# Altium footprint library footprints.PcbLib: 13 footprints
Each footprint in its own frame and in the unit in brackets; x right, y up, seen from the top. Pads: shape width x height; smd on the part's side, far side on the other; paste and mask are expansions set on the pad; w line width, h text height; cw(c..) or ccw(c..) is an arc to the next point about the centre after c.
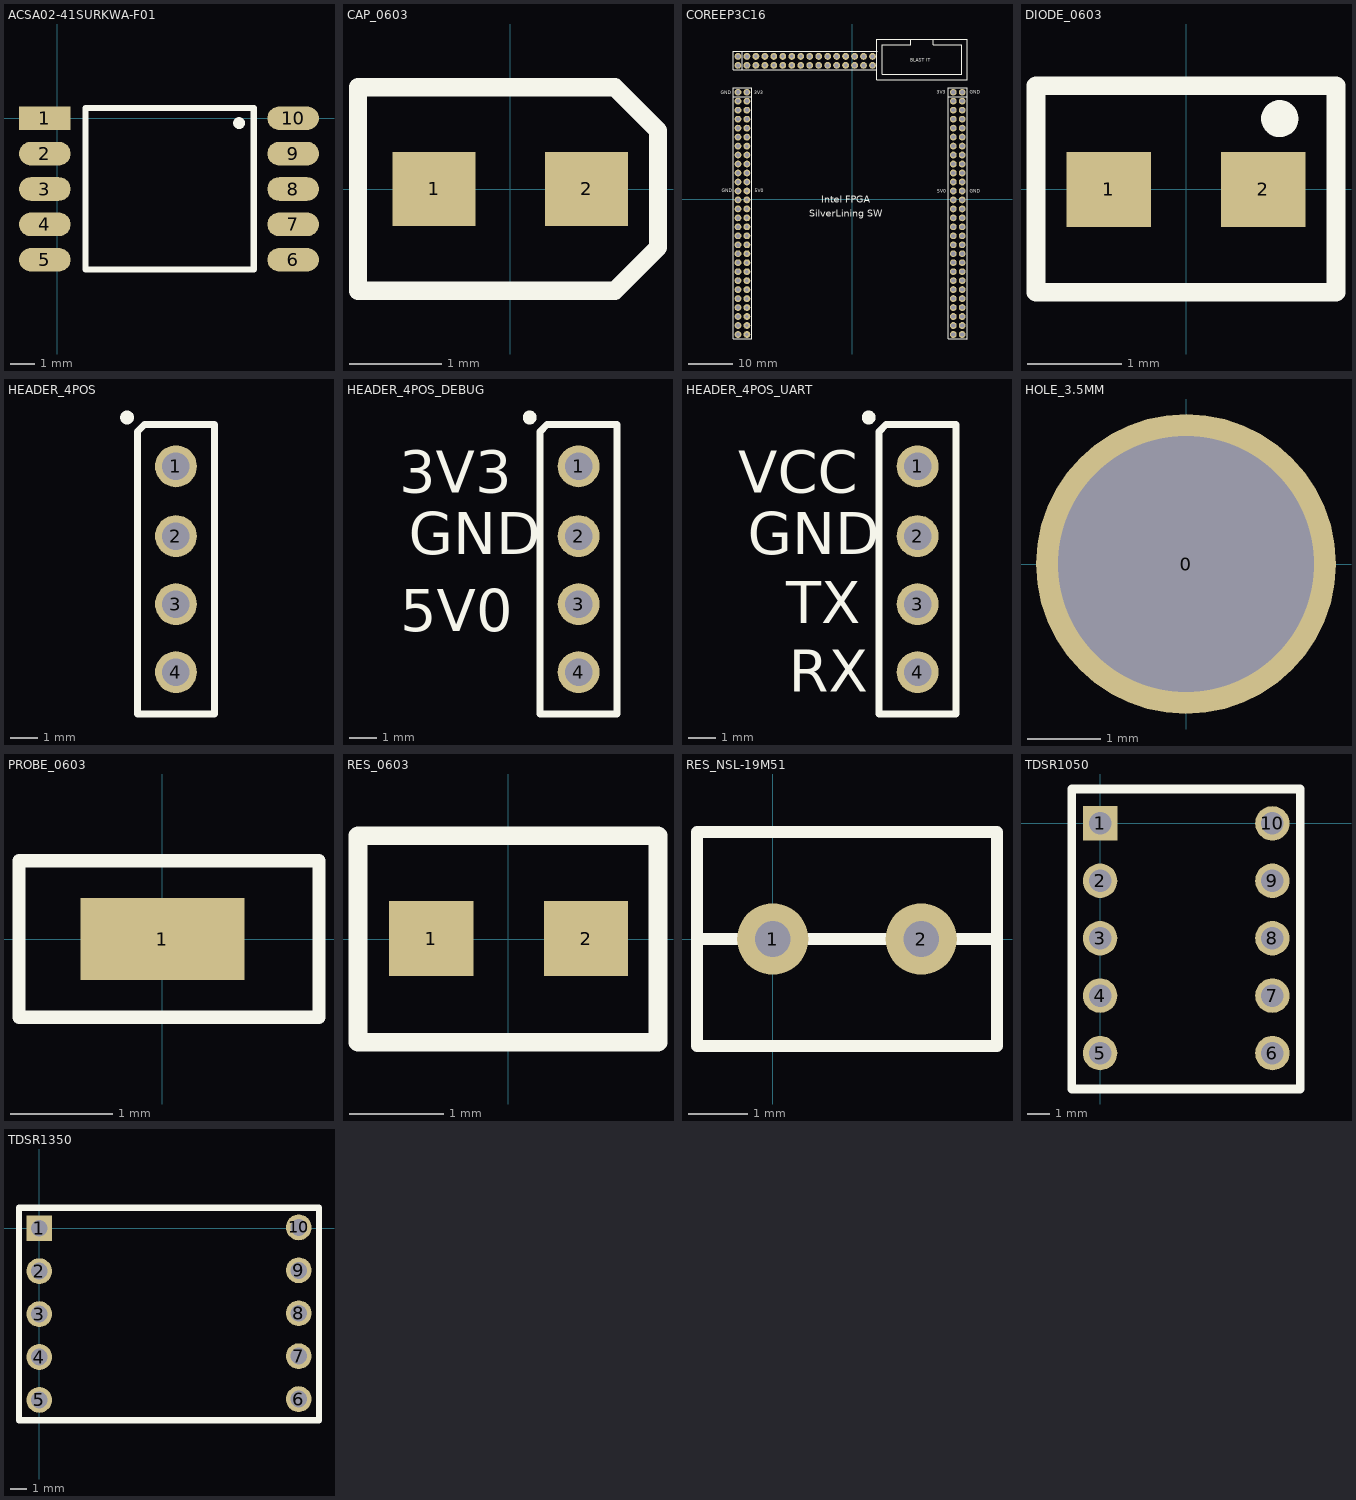
[diagram p0: the footprints below, top view; thin cyan lines are the x and y axes]

## ACSA02-41SURKWA-F01 [mm]
pads (10):
  rect 2.1x0.96 smd: 1(-0.5,0)
  oval 2.1x0.96 smd: 2(-0.5,-1.44) 3(-0.5,-2.88) 4(-0.5,-4.32) 5(-0.5,-5.76) 6(9.6,-5.76) 7(9.6,-4.32) 8(9.6,-2.88) 9(9.6,-1.44) 10(9.6,0)
Top Overlay:
  circle w0.254: c7.4,-0.2 r0.112
  lines w0.254: 1.15,-6.15 8,-6.15 8,0.417 1.15,0.417 1.15,-6.15
3D body: height 3, standoff 0, extent -0.474,-6.33 9.526,0.57

## CAP_0603 [mm]
pads (2):
  rect 0.9x0.8 smd: 1(-0.825,0) 2(0.826,0)
Top Overlay:
  lines w0.2: -1.65,-1.1 1.133,-1.1 1.6,-0.633 1.6,0.633 1.133,1.1 -1.65,1.1 -1.65,-0.15 -1.65,-1.1
3D body: height 0.35, standoff 0, extent -0.825,-0.444 0.826,0.445

## COREEP3C16 [mil] "ALTERA Cyclone III FPGA Development Board Full I/O Expander JTAG Interface"
pads (144):
  round 60 hole 35.43: 3V31(-926.55,940.04) 3V32(884.47,940.04) 4(-926.55,625.08) 5(-1005.29,625.08) 5V02(884.47,73.9) 6(-926.55,546.34) 9(-1005.29,546.34) 18(-1005.29,467.6) 19(-926.55,388.86) 20(-1005.29,388.86) 21(-926.55,310.12) 22(-1005.29,310.12) 37(-926.55,231.38) 38(-1005.29,231.38) 39(-926.55,152.64) 41(-1005.29,152.64) 44(-1005.29,-4.84) 46(-1005.29,-83.58) 50(-1005.29,-162.32) 52(-1005.29,-241.06) 56(-1005.29,-319.8) 63(-1005.29,-398.54) 65(-1005.29,-477.28) 69(-1005.29,-556.02) 71(-1005.29,-634.76) 73(-1005.29,-713.5) 78(-1005.29,-792.25) 82(-1005.29,-870.99) 84(-1005.29,-949.73) 86(-1005.29,-1028.47) 93(-1005.29,-1107.21) 95(-1005.29,-1185.95) 100(884.47,-1185.95) 101(963.21,-1185.95) 102(884.47,-1107.21) 103(963.21,-1107.21) 106(884.47,-1028.47) 107(963.21,-1028.47) 108(884.47,-949.73) 110(963.21,-949.73) 111(884.47,-870.99) 112(963.21,-870.99) 113(884.47,-792.25) 114(963.21,-792.25) 117(884.47,-713.5) 118(963.21,-713.5) 119(884.47,-634.76) 120(963.21,-634.76) 126(884.47,-556.02) 127(963.21,-556.02) 128(884.47,-477.28) 131(963.21,-477.28) 132(884.47,-398.54) 133(963.21,-398.54) 134(884.47,-319.8) 135(963.21,-319.8) 137(884.47,-241.06) 139(963.21,-241.06) 142(884.47,-162.32) 143(963.21,-162.32) 144(884.47,-83.58) 145(963.21,-83.58) 146(884.47,-4.84) 147(963.21,-4.84) 148(884.47,152.64) 159(963.21,152.64) 160(884.47,231.38) 161(963.21,231.38) 162(884.47,310.12) 164(963.21,310.12) 166(884.47,388.86) 167(963.21,388.86) 168(884.47,467.6) 169(963.21,467.6) 171(884.47,546.34) 173(963.21,546.34) 174(884.47,625.08) 175(963.21,625.08) 176(884.47,703.82) 177(963.21,703.82) 181(884.47,782.56) 182(963.21,782.56) 183(884.47,861.3) 184(963.21,861.3) 185(175.81,1255) 186(175.81,1176.26) 187(97.07,1255) 188(97.07,1176.26) 189(18.33,1255) 194(18.33,1176.26) 197(-139.15,1255) 198(-139.15,1176.26) 199(-217.89,1255) 200(-217.89,1176.26) 201(-296.63,1255) 202(-296.63,1176.26) 203(-375.37,1255) 207(-375.37,1176.26) 231(-926.55,1255) 232(-926.55,1176.26) 233(-1005.29,1255) 234(-1005.29,1176.26) 235(-1005.29,861.3) 236(-926.55,861.3) 237(-1005.29,782.56) 238(-926.55,782.56) 239(-1005.29,703.82) 240(-926.55,703.82) GND1(-1005.29,940.04) GND2(-1005.29,73.9) GND3(963.21,73.9) GND4(963.21,940.04)
  round 60 hole 29.53: 5V01(-926.55,73.9) 13(-926.55,467.6) 43(-926.55,-4.84) 45(-926.55,-83.58) 49(-926.55,-162.32) 51(-926.55,-241.06) 55(-926.55,-319.8) 57(-926.55,-398.54) 64(-926.55,-477.28) 68(-926.55,-556.02) 70(-926.55,-634.76) 72(-926.55,-713.5) 76(-926.55,-792.25) 81(-926.55,-870.99) 83(-926.55,-949.73) 85(-926.55,-1028.47) 87(-926.55,-1107.21) 94(-926.55,-1185.95) 195(-60.41,1255) 196(-60.41,1176.26) 214(-454.11,1255) 216(-454.11,1176.26) 217(-532.85,1255) 218(-532.85,1176.26) 219(-611.59,1255) 220(-611.59,1176.26) 221(-690.33,1255) 222(-690.33,1176.26) 223(-769.07,1255) 224(-769.07,1176.26) 226(-847.81,1255) 230(-847.81,1176.26)
Top Overlay:
  lines w7.87: -1044.66,1136.89 214.68,1136.89 214.96,1137.17 214.96,1298.26 ; -1044.66,1137.26 -1044.66,1298.31 ; -1044.66,1219.57 -1044.66,1274.68 ; -1044.66,1298.26 215.18,1298.26 ; -961.98,979.41 -906.87,979.41 ; -883.29,979.41 -883.29,-1225.09 -1047.29,-1225.09 -1047.29,979.41 -883.24,979.41 ; 214.79,1405.24 214.79,1050.91 1005.06,1050.91 1005.06,1407.44 710.06,1407.44 ; 214.79,1407.44 510.06,1407.44 ; 927.78,979.41 982.9,979.41 ; 1006.47,979.41 1006.47,-1225.09 842.47,-1225.09 842.47,979.41 1006.52,979.41 ; 510.06,1407.44 710.06,1407.44 ; 510.06,1407.44 510.06,1357.44 260.06,1357.44 260.06,1097.44 960.06,1097.44 960.06,1357.44 710.06,1357.44 710.06,1407.44
  lines w10: -1045.29,900.67 -885.29,900.67 ; -965.92,1138.26 -965.92,1296.26 ; 844.47,900.67 1004.47,900.67
  text "GND" at 1027.56,57.09 h29.68
  text "5V0" at 744.09,57.09 h29.68
  text "5V0" at -856.69,60.47 h29.68
  text "GND" at -1148.98,60.47 h29.68
  text "BLAST IT" at 508.98,1209.45 h29.68
  text "GND" at 1028.03,927.24 h29.68
  text "GND" at -1154.02,922.2 h29.68
  text "3V3" at 740.79,927.24 h29.68
  text "3V3" at -861.73,922.2 h29.68
  text "Intel FPGA" at -274.65,-30.24 h60
  text "SilverLining SW" at -377.95,-151.18 h60
Keep-Out Layer:
  lines w10: 1003.06,-1225.56 1006.06,-1222.56
3D body: height 393.7, standoff 0, extent -1047.24,-1222.44 1000,1375.98

## DIODE_0603 [mm]
pads (2):
  rect 0.9x0.8 smd: 1(-0.826,-0.004) 2(0.826,-0.004)
Top Overlay:
  circle w0.254: c1,0.75 r0.071
  lines w0.2: -1.6,-1.1 1.6,-1.1 1.6,1.1 -1.6,1.1 -1.6,-1.1
3D body: height 0.35, standoff 0, extent -0.826,-0.448 0.826,0.441

## HEADER_4POS [mil] "4 Positions Header, Unshrouded Connector 0.100\" (2.54mm) Through Hole, Right Angle Gold"
height 188.98
pads (4):
  round 60 hole 39.37: 1(-49595,-49490) 2(-49595,-49590) 3(-49595,-49687.5) 4(-49595,-49785)
Top Overlay:
  circle w10: c-49665,-49420 r5
  lines w10: -49650,-49845 -49540,-49845 -49540,-49430 -49640,-49430 -49650,-49440 -49650,-49845
3D body: height 192.91, standoff 78.74, extent -49642.5,-49847.5 -49227.5,-49432.5

## HEADER_4POS_DEBUG [mil] "4 Positions Header, Unshrouded Connector 0.100\" (2.54mm) Through Hole, Right Angle Gold"
height 188.98
pads (4):
  round 60 hole 39.37: 1(-49595,-49490) 2(-49595,-49590) 3(-49595,-49687.5) 4(-49595,-49785)
Top Overlay:
  circle w10: c-49665,-49420 r5
  lines w10: -49650,-49845 -49540,-49845 -49540,-49430 -49640,-49430 -49650,-49440 -49650,-49845
  text "3V3" at -49852.36,-49527.56 h60
  text "GND" at -49838.58,-49616.14 h60
  text "5V0" at -49850.39,-49726.38 h60
3D body: height 413.39, standoff 78.74, extent -49642.5,-49847.5 -49545.28,-49432.5

## HEADER_4POS_UART [mil] "4 Positions Header, Unshrouded Connector 0.100\" (2.54mm) Through Hole, Right Angle Gold"
height 188.98
pads (4):
  round 60 hole 39.37: 1(-49595,-49490) 2(-49595,-49590) 3(-49595,-49687.5) 4(-49595,-49785)
Top Overlay:
  circle w10: c-49665,-49420 r5
  lines w10: -49650,-49845 -49650,-49440 -49640,-49430 -49540,-49430 -49540,-49845 -49650,-49845
  text "TX" at -49783.46,-49714.57 h60
  text "GND" at -49838.58,-49616.14 h60
  text "RX" at -49779.53,-49812.99 h60
  text "VCC" at -49852.36,-49527.56 h60
3D body: height 192.91, standoff 78.74, extent -49642.5,-49847.5 -49227.5,-49432.5

## HOLE_3.5MM [mm] ".5"
pads (1):
  round 4.1 hole 3.5: 0(0,0)

## PROBE_0603 [mm] "Natural PC Test Point Surface Mount Mounting Type"
height 0.3
pads (1):
  rect 1.6x0.8 smd: 1(0,0)
Top Overlay:
  lines w0.127: -1.397,-0.762 1.524,-0.762 1.524,0.762 -1.397,0.762 -1.397,-0.762
3D body: height 0.35, standoff 0, extent -0.698,-0.444 0.953,0.445

## RES_0603 [mm]
pads (2):
  rect 0.9x0.8 smd: 1(-0.819,0.004) 2(0.832,0.004)
Top Overlay:
  lines w0.2: -1.6,-1.1 -1.6,1.1 1.6,1.1 1.6,-1.1 -1.6,-1.1
3D body: height 0.35, standoff 0, extent -0.819,-0.441 0.832,0.448

## RES_NSL-19M51 [mm]
pads (2):
  round 1.2 hole 0.6: 1(0,0) 2(2.5,0)
Top Overlay:
  lines w0.2: -1.275,0 1.3,0 ; 1.2,0 3.775,0 ; 3.775,0 3.775,1.8 -1.275,1.8 -1.275,-1.8 3.775,-1.8 3.775,0

## TDSR1050 [mil] "High Intensity Red Low Current 7-Segment Display"
pads (10):
  rect 60x60 hole 39.37: 1(0,0)
  round 60 hole 39.37: 2(0,-100) 3(0,-200) 4(0,-300) 5(0,-400) 6(300,-400) 7(300,-300) 8(300,-200) 9(300,-100) 10(300,0)
Top Overlay:
  lines w15.12: 175,59.84 348.43,59.84 348.43,-462.6 -49.21,-462.6 -49.21,59.84 195,59.84
3D body: height 275.59, standoff 23.62, extent -35.43,-450.79 336.61,45.28

## TDSR1350 [mil] "High Intensity Red Low Current 7-Segment Display"
pads (10):
  rect 60x60 hole 39.37: 1(0,0)
  round 60 hole 39.37: 2(0,-100) 3(0,-200) 4(0,-300) 5(0,-400) 6(604.33,-398.03) 7(604.33,-298.03) 8(604.33,-198.03) 9(604.33,-98.03) 10(604.33,1.97)
Top Overlay:
  lines w15.12: -47.24,-446.85 -47.24,47.24 651.57,47.24 651.57,-446.85 -47.24,-446.85
3D body: height 275.59, standoff 23.62, extent -35.43,-441.93 653.54,40.35